# Altium footprint library Resistors.PcbLib: 12 footprints
Each footprint in its own frame and in the unit in brackets; x right, y up, seen from the top. Pads: shape width x height; smd on the part's side, far side on the other; paste and mask are expansions set on the pad; w line width, h text height; cw(c..) or ccw(c..) is an arc to the next point about the centre after c.
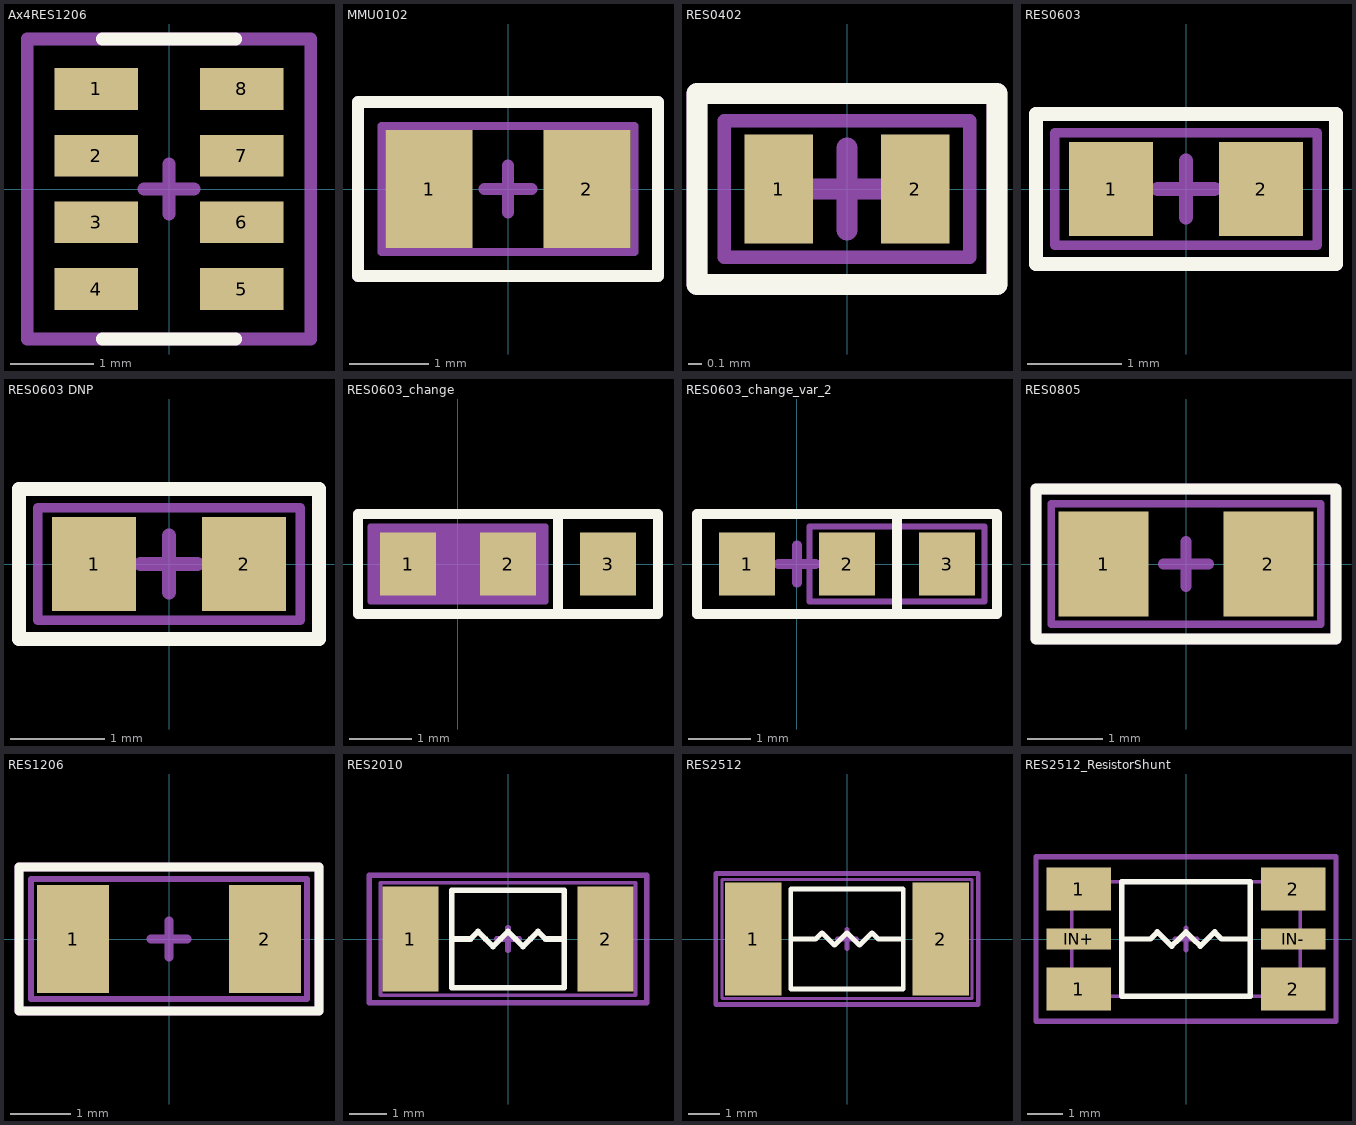
[diagram p0: the footprints below, top view; thin cyan lines are the x and y axes]

## Ax4RES1206 [mm]
pads (8):
  rect 1x0.5 smd: 1(-0.875,1.2) 2(-0.875,0.4) 3(-0.875,-0.4) 4(-0.875,-1.2) 5(0.875,-1.2) 6(0.875,-0.4) 7(0.875,0.4) 8(0.875,1.2)
Top Overlay:
  lines w0.153: -0.8,-1.8 0.8,-1.8 ; -0.8,1.8 0.8,1.8
Top Assembly:
  lines w0.1: -1.7,-1.8 -1.7,1.8 1.7,1.8 1.7,-1.8 -1.7,-1.8
  text "'.Designator'" at -4.532,-0.333 h0.8
Top Courtyard:
  lines w0.153: -0.3,0 0.3,0 ; 0,-0.3 0,0.3 ; -1.7,-1.8 -1.7,1.8 1.7,1.8 1.7,-1.8 -1.7,-1.8
3D body "CAT16-100J4LF.STEP": height 0.6, standoff 0, extent -0.775,-1.6 0.775,1.6

## MMU0102 [mm]
pads (2):
  rect 1.1x1.5 smd: 1(-1,0) 2(1,0)
Top Overlay:
  lines w0.153: -1.9,-1.1 -1.9,1.1 1.9,1.1 1.9,-1.1 -1.9,-1.1
Top Assembly:
  lines w0.1: -1.6,-0.8 1.6,-0.8 1.6,0.8 -1.6,0.8 -1.6,-0.8
  text "'.Designator'" at -4.532,-0.333 h0.8
Top Courtyard:
  lines w0.153: -0.3,0 0.3,0 ; 0,-0.3 0,0.3 ; -1.9,-1.1 -1.9,1.1 1.9,1.1 1.9,-1.1 -1.9,-1.1
3D body "mmu01020c1103fb300.stp": height 1.1, standoff 0, extent -1.1,-0.55 1.1,0.55

## RES0402 [mm]
pads (2):
  rect 0.5x0.8 smd: 1(-0.5,0) 2(0.5,0)
Top Overlay:
  lines w0.153: -1.1,-0.7 -1.1,0.7 1.1,0.7 1.1,-0.7 -1.1,-0.7
Top Assembly:
  lines w0.1: -0.9,-0.5 0.9,-0.5 0.9,0.5 -0.9,0.5 -0.9,-0.5
  text "'.Designator'" at -4.532,-0.333 h0.8
Top Courtyard:
  lines w0.153: -0.3,0 0.3,0 ; 0,-0.3 0,0.3 ; -1.1,-0.7 1.1,-0.7 1.1,0.7 -1.1,0.7 -1.1,-0.7
3D body "User Library-RES0402-2.step": height 0.35, standoff 0, extent -0.5,-0.25 0.5,0.25

## RES0603 [mm]
pads (2):
  rect 0.9x1 smd: 1(-0.8,0) 2(0.8,0)
Top Overlay:
  lines w0.153: -1.6,-0.8 1.6,-0.8 1.6,0.8 -1.6,0.8 -1.6,-0.8
Top Assembly:
  lines w0.1: -1.4,-0.6 1.4,-0.6 1.4,0.6 -1.4,0.6 -1.4,-0.6
  text "'.Designator'" at -4.532,-0.333 h0.8
Top Courtyard:
  lines w0.153: -0.3,0 0.3,0 ; 0,-0.3 0,0.3 ; -1.6,-0.8 1.6,-0.8 1.6,0.8 -1.6,0.8 -1.6,-0.8
3D body "User Library-RES0603-3.step": height 0.45, standoff 0, extent -0.8,-0.4 0.8,0.4

## RES0603 DNP [mm]
pads (2):
  rect 0.9x1 smd: 1(-0.8,0) 2(0.8,0)
Top Overlay:
  lines w0.153: -1.6,-0.8 -1.6,0.8 1.6,0.8 1.6,-0.8 -1.6,-0.8
Top Assembly:
  lines w0.1: -1.4,-0.6 -1.4,0.6 1.4,0.6 1.4,-0.6 -1.4,-0.6
  text "'.Designator'" at -4.532,-0.333 h0.8
Top Courtyard:
  lines w0.153: -0.3,0 0.3,0 ; 0,-0.3 0,0.3 ; -1.6,-0.8 -1.6,0.8 1.6,0.8 1.6,-0.8 -1.6,-0.8

## RES0603_change [mm]
pads (3):
  rect 0.9x1 smd: 1(-0.8,0) 2(0.8,0) 3(2.4,0)
Top Overlay:
  lines w0.153: 1.6,-0.8 -1.6,-0.8 -1.6,0.8 1.6,0.8 ; 1.6,-0.8 1.6,0.8 ; 1.6,-0.8 3.2,-0.8 3.2,0.8 1.6,0.8
Top Assembly:
  rectangle: -1.4,-0.6 1.4,0.6
  lines w0.1: 1.6,-0.8 1.6,0.8 ; -1.6,-0.8 3.2,-0.8 3.2,0.8 -1.6,0.8 -1.6,-0.8 ; -1.4,-0.6 1.4,-0.6 1.4,0.6 -1.4,0.6 -1.4,-0.6
  text "'.Designator'" at -4.532,-0.333 h0.8
Top Courtyard:
  lines w0.153: -0.3,0 0.3,0 ; 0,-0.3 0,0.3 ; -1.6,-0.8 3.2,-0.8 3.2,0.8 -1.6,0.8 -1.6,-0.8
3D body "User Library-RES0603-3.step": height 0.45, standoff 0, extent -0.8,-0.4 0.8,0.4

## RES0603_change_var_2 [mm]
pads (3):
  rect 0.9x1 smd: 1(-0.8,0) 2(0.8,0) 3(2.4,0)
Top Overlay:
  lines w0.153: 1.6,-0.8 3.2,-0.8 3.2,0.8 1.6,0.8 ; 1.6,-0.8 1.6,0.8 ; 1.6,-0.8 -1.6,-0.8 -1.6,0.8 1.6,0.8
Top Assembly:
  lines w0.1: 0.2,-0.6 0.2,0.6 3,0.6 3,-0.6 0.2,-0.6
  text "'.Designator'" at -2.932,-0.333 h0.8
Top Courtyard:
  lines w0.153: -0.3,0 0.3,0 ; 0,-0.3 0,0.3 ; -1.6,-0.8 -1.6,0.8 3.2,0.8 3.2,-0.8 -1.6,-0.8
3D body "User Library-RES0603-3.step": height 0.45, standoff 0, extent 0.8,-0.4 2.4,0.4

## RES0805 [mm]
pads (2):
  rect 1.2x1.4 smd: 1(-1.1,0) 2(1.1,0)
Top Overlay:
  lines w0.153: -2,-1 2,-1 2,1 -2,1 -2,-1
Top Assembly:
  lines w0.1: -1.8,-0.8 -1.8,0.8 1.8,0.8 1.8,-0.8 -1.8,-0.8
  text "'.Designator'" at -4.532,-0.333 h0.8
Top Courtyard:
  lines w0.153: -0.3,0 0.3,0 ; 0,-0.3 0,0.3 ; -2,-1 -2,1 2,1 2,-1 -2,-1
3D body "User Library-RES0805-2.step": height 0.55, standoff 0, extent -1,-0.625 1,0.625

## RES1206 [mm]
pads (2):
  rect 1.2x1.8 smd: 1(-1.6,0) 2(1.6,0)
Top Overlay:
  lines w0.153: -2.5,-1.2 2.5,-1.2 2.5,1.2 -2.5,1.2 -2.5,-1.2
Top Assembly:
  lines w0.1: -2.3,-1 2.3,-1 2.3,1 -2.3,1 -2.3,-1
  text "'.Designator'" at -4.532,-0.333 h0.8
Top Courtyard:
  lines w0.153: -0.3,0 0.3,0 ; 0,-0.3 0,0.3 ; -2.5,-1.2 2.5,-1.2 2.5,1.2 -2.5,1.2 -2.5,-1.2
3D body "User Library-RES1206-2.step": height 0.55, standoff 0, extent -1.505,-0.775 1.505,0.775

## RES2010 [mm]
pads (2):
  rect 1.5x2.8 smd: 1(-2.6,0) 2(2.6,0)
Top Overlay:
  lines w0.153: -1.5,0 -1,0 -0.8,0.2 -0.6,0 -0.4,-0.2 -0.2,0 0,0.2 0.2,0 0.4,-0.2 0.6,0 0.8,0.2 1,0 1.5,0 ; -1.5,-1.3 1.5,-1.3 1.5,1.3 -1.5,1.3 -1.5,-1.3
Top Assembly:
  lines w0.1: -3.4,-1.5 -3.4,1.5 3.4,1.5 3.4,-1.5 -3.4,-1.5
  text "'.Designator'" at -4.532,-0.333 h0.8
Top Courtyard:
  lines w0.153: -0.3,0 0.3,0 ; 0,-0.3 0,0.3 ; -3.7,-1.7 3.7,-1.7 3.7,1.7 -3.7,1.7 -3.7,-1.7
3D body "User Library-R2010-2.step": height 0.6, standoff 0, extent -2.5,-1.25 2.5,1.25

## RES2512 [mm]
pads (2):
  rect 1.8x3.6 smd: 1(-3,0) 2(3,0)
Top Overlay:
  lines w0.153: -1.7,0 -1,0 -0.8,0.2 -0.6,0 -0.4,-0.2 -0.2,0 0,0.2 0.2,0 0.4,-0.2 0.6,0 0.8,0.2 1,0 1.8,0 ; -1.8,-1.6 -1.8,1.6 1.8,1.6 1.8,-1.6 -1.8,-1.6
Top Assembly:
  lines w0.1: -4,-1.9 -4,1.9 4,1.9 4,-1.9 -4,-1.9
  text "'.Designator'" at -4.532,-0.333 h0.8
Top Courtyard:
  lines w0.153: -0.3,0 0.3,0 ; 0,-0.3 0,0.3 ; -4.2,-2.1 -4.2,2.1 4.2,2.1 4.2,-2.1 -4.2,-2.1
3D body "User Library-R_2512.step": height 0.6, standoff 0, extent -3.2,-1.6 3.2,1.6

## RES2512_ResistorShunt [mm]
pads (6):
  rect 1.8x1.2 smd: 1(-3,-1.4) 1(-3,1.4) 2(3,-1.4) 2(3,1.4)
  rect 1.8x0.6 smd: IN+(-3,0) IN-(3,0)
Top Overlay:
  lines w0.153: -1.7,0 -1,0 -0.8,0.2 -0.6,0 -0.4,-0.2 -0.2,0 0,0.2 0.2,0 0.4,-0.2 0.6,0 0.8,0.2 1,0 1.8,0 ; -1.8,-1.6 1.8,-1.6 1.8,1.6 -1.8,1.6 -1.8,-1.6
Top Assembly:
  lines w0.1: -3.2,-1.6 3.2,-1.6 3.2,1.6 -3.2,1.6 -3.2,-1.6
  text "'.Designator'" at -4.532,-0.333 h0.8
Top Courtyard:
  lines w0.153: -0.3,0 0.3,0 ; 0,-0.3 0,0.3 ; -4.2,-2.3 4.2,-2.3 4.2,2.3 -4.2,2.3 -4.2,-2.3
3D body "User Library-R_2512.step": height 0.6, standoff 0, extent -3.2,-1.6 3.2,1.6